# EAGLE library part FT423H (library FT432H)
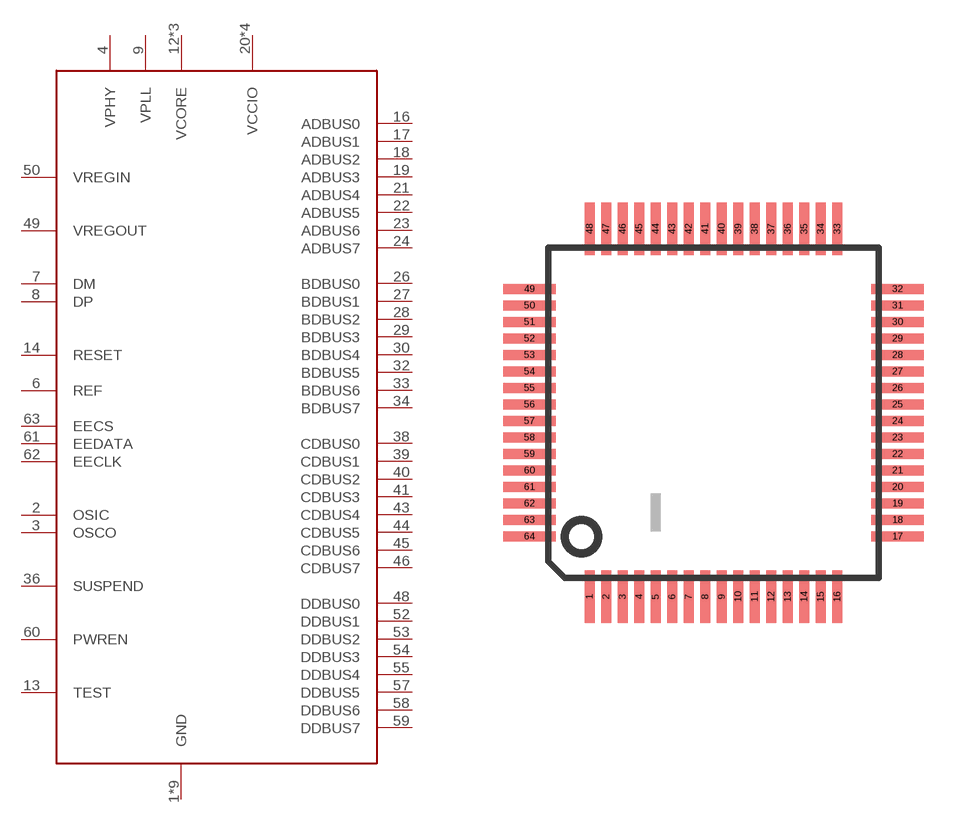
[diagram p0: symbol with the pads of LQFP-64; footprint LQFP-64]

Designator prefix -

## FT423H  [LQFP-64]
1  GND
2  OSIC
3  OSCO
4  VPHY
5  GND
6  REF
7  DM
8  DP
9  VPLL
10  GND
11  GND
12  VCORE
13  TEST
14  RESET
15  GND
16  ADBUS0
17  ADBUS1
18  ADBUS2
19  ADBUS3
20  VCCIO
21  ADBUS4
22  ADBUS5
23  ADBUS6
24  ADBUS7
25  GND
26  BDBUS0
27  BDBUS1
28  BDBUS2
29  BDBUS3
30  BDBUS4
31  VCCIO
32  BDBUS5
33  BDBUS6
34  BDBUS7
35  GND
36  SUSPEND
37  VCORE
38  CDBUS0
39  CDBUS1
40  CDBUS2
41  CDBUS3
42  VCCIO
43  CDBUS4
44  CDBUS5
45  CDBUS6
46  CDBUS7
47  GND
48  DDBUS0
49  VREGOUT
50  VREGIN
51  GND
52  DDBUS1
53  DDBUS2
54  DDBUS3
55  DDBUS4
56  VCCIO
57  DDBUS5
58  DDBUS6
59  DDBUS7
60  PWREN
61  EEDATA
62  EECLK
63  EECS
64  VCORE

## Footprint LQFP-64 (pad centres in mm)
smd 0.3 x 1.6: 1 -3.25,-5.825; 2 -2.75,-5.825; 3 -2.25,-5.825; 4 -1.75,-5.825; 5 -1.25,-5.825; 6 -0.75,-5.825; 7 -0.25,-5.825; 8 0.25,-5.825; 9 0.75,-5.825; 10 1.25,-5.825; 11 1.75,-5.825; 12 2.25,-5.825; 13 2.75,-5.825; 14 3.25,-5.825; 15 3.75,-5.825; 16 4.25,-5.825; 33 4.25,5.325; 34 3.75,5.325; 35 3.25,5.325; 36 2.75,5.325; 37 2.25,5.325; 38 1.75,5.325; 39 1.25,5.325; 40 0.75,5.325; 41 0.25,5.325; 42 -0.25,5.325; 43 -0.75,5.325; 44 -1.25,5.325; 45 -1.75,5.325; 46 -2.25,5.325; 47 -2.75,5.325; 48 -3.25,5.325
smd 1.6 x 0.3: 17 6.075,-4; 18 6.075,-3.5; 19 6.075,-3; 20 6.075,-2.5; 21 6.075,-2; 22 6.075,-1.5; 23 6.075,-1; 24 6.075,-0.5; 25 6.075,0; 26 6.075,0.5; 27 6.075,1; 28 6.075,1.5; 29 6.075,2; 30 6.075,2.5; 31 6.075,3; 32 6.075,3.5; 49 -5.075,3.5; 50 -5.075,3; 51 -5.075,2.5; 52 -5.075,2; 53 -5.075,1.5; 54 -5.075,1; 55 -5.075,0.5; 56 -5.075,0; 57 -5.075,-0.5; 58 -5.075,-1; 59 -5.075,-1.5; 60 -5.075,-2; 61 -5.075,-2.5; 62 -5.075,-3; 63 -5.075,-3.5; 64 -5.075,-4